# EAGLE library part LINEAR,MULTIPLIER:AD603 (library QuantumOptics)
AD603, Analog Devices, variable gain amp, 90MHz, low noise. http://www.analog.com/UploadedFiles/Data_Sheets/AD603.pdf
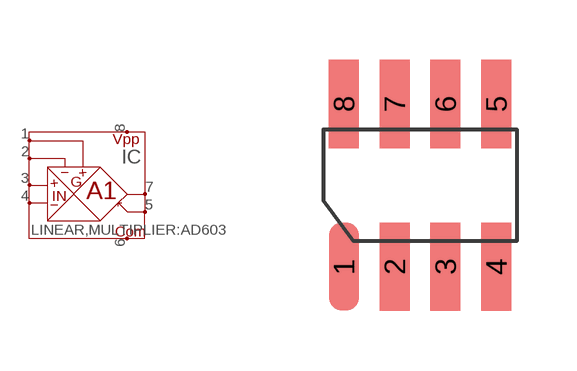
[diagram p83: symbol with the pads of SOIC-8; footprint SOIC-8]

Designator prefix IC

## LINEAR,MULTIPLIER:AD603  [SOIC-8]
1  GPOS
2  GNEG
3  VINP
4  COMM
5  FDBK
6  VNEG
7  VOUT
8  VPOS

## Footprint SOIC-8 (pad centres in mm)
SOIC-8 (AKA SO-8), pads on 0.050" grid.
smd 0.75 x 2.2: 1 -1.905,-2.032; 2 -0.635,-2.032; 3 0.635,-2.032; 4 1.905,-2.032; 5 1.905,2.032; 6 0.635,2.032; 7 -0.635,2.032; 8 -1.905,2.032